# Altium schematic symbol library WCAP-CSGP.SchLib: 1002 symbols (part 20 of 21)
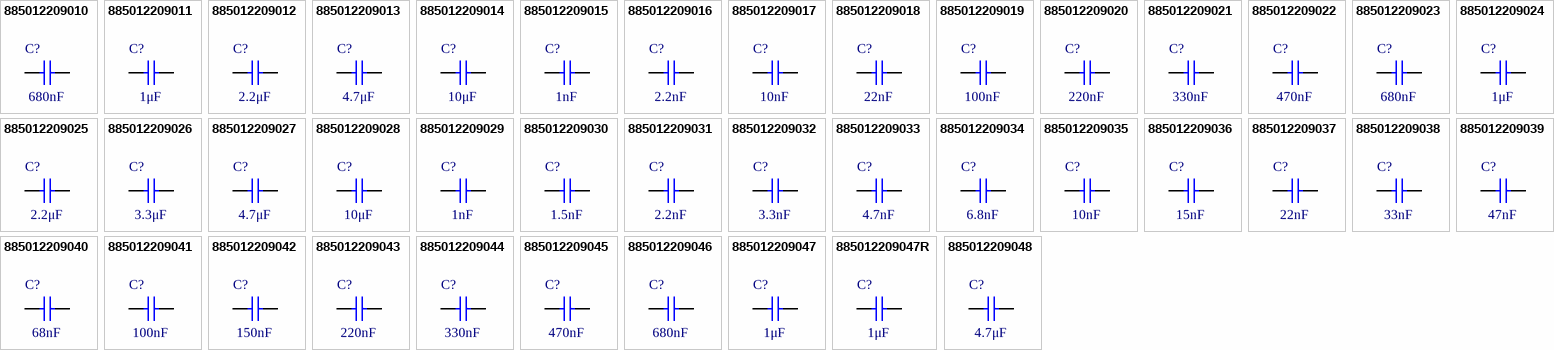
[diagram p44: symbols 885012209010 to 885012209048]

## 885012209031
designator C?, comment 2.2nF
WCAP-CSGP Multilayer Ceramic Chip Capacitor, General Purpose, size 1210, X7R, 2.2nF, 50V; Manufacturer Part Number: 885012209031; Manufacturer: Wurth Elektronik; Case/Size Code: 1210; Capacitance Tolerance: +/-10%; Dissipation Factor: 2.5%; Insulation Resistance: 10GΩ; Technical Reference: X7R1210222K050DFCT10000; Category: Multilayer Ceramic Chip Capacitors; Match Code: WCAP-CSGP; ComponentLink1Description: Website Link; ComponentLink1URL: https://www.we-online.com/redexpert/article/885012209031?ad; ComponentLink2Description: Datasheet Link; ComponentLink2URL: https://www.we-online.com/redexpert/spec/885012209031?ad; Mount: Surface Mount; Min Operating Temperature: -55°C; Max Operating Temperature: 125°C; Packaging: Tape and Reel; Length: 3.2mm; Width: 2.5mm; Height: 0.95mm; Capacitance: 2.2nF; Ceramic Type: X7R; Rated Voltage (DC): 50V
footprint WCAP-CSGP_1210_L3.2W2.5H0.95
simulation model 1210_885012209031_2.2nF
pins: 1, 2

## 885012209032
designator C?, comment 3.3nF
WCAP-CSGP Multilayer Ceramic Chip Capacitor, General Purpose, size 1210, X7R, 3.3nF, 50V; Manufacturer Part Number: 885012209032; Manufacturer: Wurth Elektronik; Case/Size Code: 1210; Capacitance Tolerance: +/-10%; Dissipation Factor: 2.5%; Insulation Resistance: 10GΩ; Technical Reference: X7R1210332K050DFCT10000; Category: Multilayer Ceramic Chip Capacitors; Match Code: WCAP-CSGP; ComponentLink1Description: Website Link; ComponentLink1URL: https://www.we-online.com/redexpert/article/885012209032?ad; ComponentLink2Description: Datasheet Link; ComponentLink2URL: https://www.we-online.com/redexpert/spec/885012209032?ad; Mount: Surface Mount; Min Operating Temperature: -55°C; Max Operating Temperature: 125°C; Packaging: Tape and Reel; Length: 3.2mm; Width: 2.5mm; Height: 0.95mm; Capacitance: 3.3nF; Ceramic Type: X7R; Rated Voltage (DC): 50V
footprint WCAP-CSGP_1210_L3.2W2.5H0.95
simulation model 1210_885012209032_3.3nF
pins: 1, 2

## 885012209033
designator C?, comment 4.7nF
WCAP-CSGP Multilayer Ceramic Chip Capacitor, General Purpose, size 1210, X7R, 4.7nF, 50V; Manufacturer Part Number: 885012209033; Manufacturer: Wurth Elektronik; Case/Size Code: 1210; Capacitance Tolerance: +/-10%; Dissipation Factor: 2.5%; Insulation Resistance: 10GΩ; Technical Reference: X7R1210472K050DFCT10000; Category: Multilayer Ceramic Chip Capacitors; Match Code: WCAP-CSGP; ComponentLink1Description: Website Link; ComponentLink1URL: https://www.we-online.com/redexpert/article/885012209033?ad; ComponentLink2Description: Datasheet Link; ComponentLink2URL: https://www.we-online.com/redexpert/spec/885012209033?ad; Mount: Surface Mount; Min Operating Temperature: -55°C; Max Operating Temperature: 125°C; Packaging: Tape and Reel; Length: 3.2mm; Width: 2.5mm; Height: 0.95mm; Capacitance: 4.7nF; Ceramic Type: X7R; Rated Voltage (DC): 50V
footprint WCAP-CSGP_1210_L3.2W2.5H0.95
simulation model 1210_885012209033_4.7nF
pins: 1, 2

## 885012209034
designator C?, comment 6.8nF
WCAP-CSGP Multilayer Ceramic Chip Capacitor, General Purpose, size 1210, X7R, 6.8nF, 50V; Manufacturer Part Number: 885012209034; Manufacturer: Wurth Elektronik; Case/Size Code: 1210; Capacitance Tolerance: +/-10%; Dissipation Factor: 2.5%; Insulation Resistance: 10GΩ; Technical Reference: X7R1210682K050DFCT10000; Category: Multilayer Ceramic Chip Capacitors; Match Code: WCAP-CSGP; ComponentLink1Description: Website Link; ComponentLink1URL: https://www.we-online.com/redexpert/article/885012209034?ad; ComponentLink2Description: Datasheet Link; ComponentLink2URL: https://www.we-online.com/redexpert/spec/885012209034?ad; Mount: Surface Mount; Min Operating Temperature: -55°C; Max Operating Temperature: 125°C; Packaging: Tape and Reel; Length: 3.2mm; Width: 2.5mm; Height: 0.95mm; Capacitance: 6.8nF; Ceramic Type: X7R; Rated Voltage (DC): 50V
footprint WCAP-CSGP_1210_L3.2W2.5H0.95
simulation model 1210_885012209034_6.8nF
pins: 1, 2

## 885012209035
designator C?, comment 10nF
WCAP-CSGP Multilayer Ceramic Chip Capacitor, General Purpose, size 1210, X7R, 10nF, 50V; Manufacturer Part Number: 885012209035; Manufacturer: Wurth Elektronik; Case/Size Code: 1210; Capacitance Tolerance: +/-10%; Dissipation Factor: 2.5%; Insulation Resistance: 10GΩ; Technical Reference: X7R1210103K050DFCT10000; Category: Multilayer Ceramic Chip Capacitors; Match Code: WCAP-CSGP; ComponentLink1Description: Website Link; ComponentLink1URL: https://www.we-online.com/redexpert/article/885012209035?ad; ComponentLink2Description: Datasheet Link; ComponentLink2URL: https://www.we-online.com/redexpert/spec/885012209035?ad; Mount: Surface Mount; Min Operating Temperature: -55°C; Max Operating Temperature: 125°C; Packaging: Tape and Reel; Length: 3.2mm; Width: 2.5mm; Height: 0.95mm; Capacitance: 10nF; Ceramic Type: X7R; Rated Voltage (DC): 50V
footprint WCAP-CSGP_1210_L3.2W2.5H0.95
simulation model 1210_885012209035_10nF
pins: 1, 2

## 885012209036
designator C?, comment 15nF
WCAP-CSGP Multilayer Ceramic Chip Capacitor, General Purpose, size 1210, X7R, 15nF, 50V; Manufacturer Part Number: 885012209036; Manufacturer: Wurth Elektronik; Case/Size Code: 1210; Capacitance Tolerance: +/-10%; Dissipation Factor: 2.5%; Insulation Resistance: 10GΩ; Technical Reference: X7R1210153K050DFCT10000; Category: Multilayer Ceramic Chip Capacitors; Match Code: WCAP-CSGP; ComponentLink1Description: Website Link; ComponentLink1URL: https://www.we-online.com/redexpert/article/885012209036?ad; ComponentLink2Description: Datasheet Link; ComponentLink2URL: https://www.we-online.com/redexpert/spec/885012209036?ad; Mount: Surface Mount; Min Operating Temperature: -55°C; Max Operating Temperature: 125°C; Packaging: Tape and Reel; Length: 3.2mm; Width: 2.5mm; Height: 0.95mm; Capacitance: 15nF; Ceramic Type: X7R; Rated Voltage (DC): 50V
footprint WCAP-CSGP_1210_L3.2W2.5H0.95
simulation model 1210_885012209036_15nF
pins: 1, 2

## 885012209037
designator C?, comment 22nF
WCAP-CSGP Multilayer Ceramic Chip Capacitor, General Purpose, size 1210, X7R, 22nF, 50V; Manufacturer Part Number: 885012209037; Manufacturer: Wurth Elektronik; Case/Size Code: 1210; Capacitance Tolerance: +/-10%; Dissipation Factor: 2.5%; Insulation Resistance: 10GΩ; Technical Reference: X7R1210223K050DFCT10000; Category: Multilayer Ceramic Chip Capacitors; Match Code: WCAP-CSGP; ComponentLink1Description: Website Link; ComponentLink1URL: https://www.we-online.com/redexpert/article/885012209037?ad; ComponentLink2Description: Datasheet Link; ComponentLink2URL: https://www.we-online.com/redexpert/spec/885012209037?ad; Mount: Surface Mount; Min Operating Temperature: -55°C; Max Operating Temperature: 125°C; Packaging: Tape and Reel; Length: 3.2mm; Width: 2.5mm; Height: 0.95mm; Capacitance: 22nF; Ceramic Type: X7R; Rated Voltage (DC): 50V
footprint WCAP-CSGP_1210_L3.2W2.5H0.95
simulation model 1210_885012209037_22nF
pins: 1, 2

## 885012209038
designator C?, comment 33nF
WCAP-CSGP Multilayer Ceramic Chip Capacitor, General Purpose, size 1210, X7R, 33nF, 50V; Manufacturer Part Number: 885012209038; Manufacturer: Wurth Elektronik; Case/Size Code: 1210; Capacitance Tolerance: +/-10%; Dissipation Factor: 2.5%; Insulation Resistance: 10GΩ; Technical Reference: X7R1210333K050DFCT10000; Category: Multilayer Ceramic Chip Capacitors; Match Code: WCAP-CSGP; ComponentLink1Description: Website Link; ComponentLink1URL: https://www.we-online.com/redexpert/article/885012209038?ad; ComponentLink2Description: Datasheet Link; ComponentLink2URL: https://www.we-online.com/redexpert/spec/885012209038?ad; Mount: Surface Mount; Min Operating Temperature: -55°C; Max Operating Temperature: 125°C; Packaging: Tape and Reel; Length: 3.2mm; Width: 2.5mm; Height: 0.95mm; Capacitance: 33nF; Ceramic Type: X7R; Rated Voltage (DC): 50V
footprint WCAP-CSGP_1210_L3.2W2.5H0.95
simulation model 1210_885012209038_33nF
pins: 1, 2

## 885012209039
designator C?, comment 47nF
WCAP-CSGP Multilayer Ceramic Chip Capacitor, General Purpose, size 1210, X7R, 47nF, 50V; Manufacturer Part Number: 885012209039; Manufacturer: Wurth Elektronik; Case/Size Code: 1210; Capacitance Tolerance: +/-10%; Dissipation Factor: 2.5%; Insulation Resistance: 10GΩ; Technical Reference: X7R1210473K050DFCT10000; Category: Multilayer Ceramic Chip Capacitors; Match Code: WCAP-CSGP; ComponentLink1Description: Website Link; ComponentLink1URL: https://www.we-online.com/redexpert/article/885012209039?ad; ComponentLink2Description: Datasheet Link; ComponentLink2URL: https://www.we-online.com/redexpert/spec/885012209039?ad; Mount: Surface Mount; Min Operating Temperature: -55°C; Max Operating Temperature: 125°C; Packaging: Tape and Reel; Length: 3.2mm; Width: 2.5mm; Height: 0.95mm; Capacitance: 47nF; Ceramic Type: X7R; Rated Voltage (DC): 50V
footprint WCAP-CSGP_1210_L3.2W2.5H0.95
simulation model 1210_885012209039_47nF
pins: 1, 2

## 885012209040
designator C?, comment 68nF
WCAP-CSGP Multilayer Ceramic Chip Capacitor, General Purpose, size 1210, X7R, 68nF, 50V; Manufacturer Part Number: 885012209040; Manufacturer: Wurth Elektronik; Case/Size Code: 1210; Capacitance Tolerance: +/-10%; Dissipation Factor: 2.5%; Insulation Resistance: 7.4GΩ; Technical Reference: X7R1210683K050DFCT10000; Category: Multilayer Ceramic Chip Capacitors; Match Code: WCAP-CSGP; ComponentLink1Description: Website Link; ComponentLink1URL: https://www.we-online.com/redexpert/article/885012209040?ad; ComponentLink2Description: Datasheet Link; ComponentLink2URL: https://www.we-online.com/redexpert/spec/885012209040?ad; Mount: Surface Mount; Min Operating Temperature: -55°C; Max Operating Temperature: 125°C; Packaging: Tape and Reel; Length: 3.2mm; Width: 2.5mm; Height: 0.95mm; Capacitance: 68nF; Ceramic Type: X7R; Rated Voltage (DC): 50V
footprint WCAP-CSGP_1210_L3.2W2.5H0.95
simulation model 1210_885012209040_68nF
pins: 1, 2

## 885012209041
designator C?, comment 100nF
WCAP-CSGP Multilayer Ceramic Chip Capacitor, General Purpose, size 1210, X7R, 100nF, 50V; Manufacturer Part Number: 885012209041; Manufacturer: Wurth Elektronik; Case/Size Code: 1210; Capacitance Tolerance: +/-10%; Dissipation Factor: 2.5%; Insulation Resistance: 5GΩ; Technical Reference: X7R1210104K050DFCT10000; Category: Multilayer Ceramic Chip Capacitors; Match Code: WCAP-CSGP; ComponentLink1Description: Website Link; ComponentLink1URL: https://www.we-online.com/redexpert/article/885012209041?ad; ComponentLink2Description: Datasheet Link; ComponentLink2URL: https://www.we-online.com/redexpert/spec/885012209041?ad; Mount: Surface Mount; Min Operating Temperature: -55°C; Max Operating Temperature: 125°C; Packaging: Tape and Reel; Length: 3.2mm; Width: 2.5mm; Height: 0.95mm; Capacitance: 100nF; Ceramic Type: X7R; Rated Voltage (DC): 50V
footprint WCAP-CSGP_1210_L3.2W2.5H0.95
simulation model 1210_885012209041_100nF
pins: 1, 2

## 885012209042
designator C?, comment 150nF
WCAP-CSGP Multilayer Ceramic Chip Capacitor, General Purpose, size 1210, X7R, 150nF, 50V; Manufacturer Part Number: 885012209042; Manufacturer: Wurth Elektronik; Case/Size Code: 1210; Capacitance Tolerance: +/-10%; Dissipation Factor: 2.5%; Insulation Resistance: 3.3GΩ; Technical Reference: X7R1210154K050DFCT10000; Category: Multilayer Ceramic Chip Capacitors; Match Code: WCAP-CSGP; ComponentLink1Description: Website Link; ComponentLink1URL: https://www.we-online.com/redexpert/article/885012209042?ad; ComponentLink2Description: Datasheet Link; ComponentLink2URL: https://www.we-online.com/redexpert/spec/885012209042?ad; Mount: Surface Mount; Min Operating Temperature: -55°C; Max Operating Temperature: 125°C; Packaging: Tape and Reel; Length: 3.2mm; Width: 2.5mm; Height: 0.95mm; Capacitance: 150nF; Ceramic Type: X7R; Rated Voltage (DC): 50V
footprint WCAP-CSGP_1210_L3.2W2.5H0.95
simulation model 1210_885012209042_150nF
pins: 1, 2

## 885012209043
designator C?, comment 220nF
WCAP-CSGP Multilayer Ceramic Chip Capacitor, General Purpose, size 1210, X7R, 220nF, 50V; Manufacturer Part Number: 885012209043; Manufacturer: Wurth Elektronik; Case/Size Code: 1210; Capacitance Tolerance: +/-10%; Dissipation Factor: 2.5%; Insulation Resistance: 2.3GΩ; Technical Reference: X7R1210224K050DFCT10000; Category: Multilayer Ceramic Chip Capacitors; Match Code: WCAP-CSGP; ComponentLink1Description: Website Link; ComponentLink1URL: https://www.we-online.com/redexpert/article/885012209043?ad; ComponentLink2Description: Datasheet Link; ComponentLink2URL: https://www.we-online.com/redexpert/spec/885012209043?ad; Mount: Surface Mount; Min Operating Temperature: -55°C; Max Operating Temperature: 125°C; Packaging: Tape and Reel; Length: 3.2mm; Width: 2.5mm; Height: 0.95mm; Capacitance: 220nF; Ceramic Type: X7R; Rated Voltage (DC): 50V
footprint WCAP-CSGP_1210_L3.2W2.5H0.95
simulation model 1210_885012209043_220nF
pins: 1, 2

## 885012209044
designator C?, comment 330nF
WCAP-CSGP Multilayer Ceramic Chip Capacitor, General Purpose, size 1210, X7R, 330nF, 50V; Manufacturer Part Number: 885012209044; Manufacturer: Wurth Elektronik; Case/Size Code: 1210; Capacitance Tolerance: +/-10%; Dissipation Factor: 2.5%; Insulation Resistance: 1.5GΩ; Technical Reference: X7R1210334K050DFCT10000; Category: Multilayer Ceramic Chip Capacitors; Match Code: WCAP-CSGP; ComponentLink1Description: Website Link; ComponentLink1URL: https://www.we-online.com/redexpert/article/885012209044?ad; ComponentLink2Description: Datasheet Link; ComponentLink2URL: https://www.we-online.com/redexpert/spec/885012209044?ad; Mount: Surface Mount; Min Operating Temperature: -55°C; Max Operating Temperature: 125°C; Packaging: Tape and Reel; Length: 3.2mm; Width: 2.5mm; Height: 1.25mm; Capacitance: 330nF; Ceramic Type: X7R; Rated Voltage (DC): 50V
footprint WCAP-CSGP_1210_L3.2W2.5H1.25
simulation model 1210_885012209044_330nF
pins: 1, 2

## 885012209045
designator C?, comment 470nF
WCAP-CSGP Multilayer Ceramic Chip Capacitor, General Purpose, size 1210, X7R, 470nF, 50V; Manufacturer Part Number: 885012209045; Manufacturer: Wurth Elektronik; Case/Size Code: 1210; Capacitance Tolerance: +/-10%; Dissipation Factor: 2.5%; Insulation Resistance: 1.1GΩ; Technical Reference: X7R1210474K050DFCT10000; Category: Multilayer Ceramic Chip Capacitors; Match Code: WCAP-CSGP; ComponentLink1Description: Website Link; ComponentLink1URL: https://www.we-online.com/redexpert/article/885012209045?ad; ComponentLink2Description: Datasheet Link; ComponentLink2URL: https://www.we-online.com/redexpert/spec/885012209045?ad; Mount: Surface Mount; Min Operating Temperature: -55°C; Max Operating Temperature: 125°C; Packaging: Tape and Reel; Length: 3.2mm; Width: 2.5mm; Height: 1.25mm; Capacitance: 470nF; Ceramic Type: X7R; Rated Voltage (DC): 50V
footprint WCAP-CSGP_1210_L3.2W2.5H1.25
simulation model 1210_885012209045_470nF
pins: 1, 2

## 885012209046
designator C?, comment 680nF
WCAP-CSGP Multilayer Ceramic Chip Capacitor, General Purpose, size 1210, X7R, 680nF, 50V; Manufacturer Part Number: 885012209046; Manufacturer: Wurth Elektronik; Case/Size Code: 1210; Capacitance Tolerance: +/-10%; Dissipation Factor: 2.5%; Insulation Resistance: 0.7GΩ; Technical Reference: X7R1210684K050DFCT10000; Category: Multilayer Ceramic Chip Capacitors; Match Code: WCAP-CSGP; ComponentLink1Description: Website Link; ComponentLink1URL: https://www.we-online.com/redexpert/article/885012209046?ad; ComponentLink2Description: Datasheet Link; ComponentLink2URL: https://www.we-online.com/redexpert/spec/885012209046?ad; Mount: Surface Mount; Min Operating Temperature: -55°C; Max Operating Temperature: 125°C; Packaging: Tape and Reel; Length: 3.2mm; Width: 2.5mm; Height: 1.25mm; Capacitance: 680nF; Ceramic Type: X7R; Rated Voltage (DC): 50V
footprint WCAP-CSGP_1210_L3.2W2.5H1.25
simulation model 1210_885012209046_680nF
pins: 1, 2

## 885012209047
designator C?, comment 1μF
WCAP-CSGP Multilayer Ceramic Chip Capacitor, General Purpose, size 1210, X7R, 1μF, 50V; Manufacturer Part Number: 885012209047; Manufacturer: Wurth Elektronik; Case/Size Code: 1210; Capacitance Tolerance: +/-10%; Dissipation Factor: 2.5%; Insulation Resistance: 0.5GΩ; Technical Reference: X7R1210105K050DFCT10000; Category: Multilayer Ceramic Chip Capacitors; Match Code: WCAP-CSGP; ComponentLink1Description: Website Link; ComponentLink1URL: https://www.we-online.com/redexpert/article/885012209047?ad; ComponentLink2Description: Datasheet Link; ComponentLink2URL: https://www.we-online.com/redexpert/spec/885012209047?ad; Mount: Surface Mount; Min Operating Temperature: -55°C; Max Operating Temperature: 125°C; Packaging: Tape and Reel; Length: 3.2mm; Width: 2.5mm; Height: 1.25mm; Capacitance: 1μF; Ceramic Type: X7R; Rated Voltage (DC): 50V
footprint WCAP-CSGP_1210_L3.2W2.5H1.25
simulation model 1210_885012209047_1uF
pins: 1, 2

## 885012209047R
designator C?, comment 1μF
WCAP-CSGP Multilayer Ceramic Chip Capacitor, General Purpose, size 1210, X7R, 1μF, 50V; Manufacturer Part Number: 885012209047R; Manufacturer: Wurth Elektronik; Case/Size Code: 1210; Capacitance Tolerance: +/-10%; Dissipation Factor: 2.5%; Insulation Resistance: 0.5GΩ; Technical Reference: X7R1210105K050DFCT20000; Category: Multilayer Ceramic Chip Capacitors; Match Code: WCAP-CSGP; ComponentLink1Description: Website Link; ComponentLink1URL: https://www.we-online.com/redexpert/article/885012209047R?ad; ComponentLink2Description: Datasheet Link; ComponentLink2URL: https://www.we-online.com/redexpert/spec/885012209047R?ad; Mount: Surface Mount; Min Operating Temperature: -55°C; Max Operating Temperature: 125°C; Packaging: Tape and Reel; Length: 3.2mm; Width: 2.5mm; Height: 1.25mm; Capacitance: 1μF; Ceramic Type: X7R; Rated Voltage (DC): 50V
footprint WCAP-CSGP_1210_L3.2W2.5H1.25
simulation model 1210_885012209047R_1uF
pins: 1, 2

## 885012209048
designator C?, comment 4.7μF
WCAP-CSGP Multilayer Ceramic Chip Capacitor, General Purpose, size 1210, X7R, 4.7μF, 50V; Manufacturer Part Number: 885012209048; Manufacturer: Wurth Elektronik; Case/Size Code: 1210; Capacitance Tolerance: +/-10%; Dissipation Factor: 5%; Insulation Resistance: 0.02GΩ; Technical Reference: X7R1210475K050DFCT10000; Category: Multilayer Ceramic Chip Capacitors; Match Code: WCAP-CSGP; ComponentLink1Description: Website Link; ComponentLink1URL: https://www.we-online.com/redexpert/article/885012209048?ad; ComponentLink2Description: Datasheet Link; ComponentLink2URL: https://www.we-online.com/redexpert/spec/885012209048?ad; Mount: Surface Mount; Min Operating Temperature: -55°C; Max Operating Temperature: 125°C; Packaging: Tape and Reel; Length: 3.2mm; Width: 2.5mm; Height: 2.5mm; Capacitance: 4.7μF; Ceramic Type: X7R; Rated Voltage (DC): 50V
footprint WCAP-CSGP_1210_L3.2W2.5H2.5
simulation model 1210_885012209048_4.7uF
pins: 1, 2

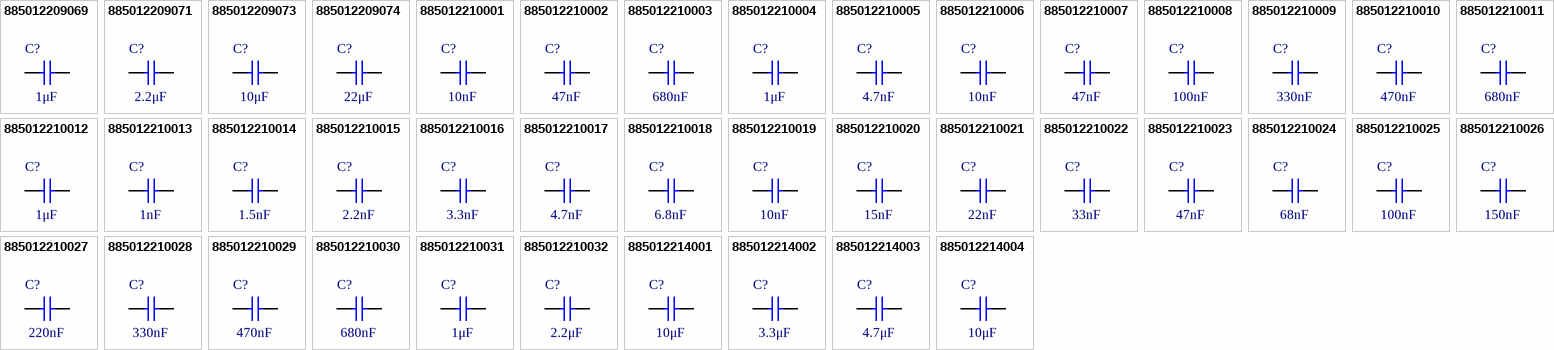
[diagram p24: symbols 885012209069 to 885012214004]

## 885012209069
designator C?, comment 1μF
WCAP-CSGP Multilayer Ceramic Chip Capacitor, General Purpose, size 1210, X7R, 1μF, 100V; Manufacturer Part Number: 885012209069; Manufacturer: Wurth Elektronik; Case/Size Code: 1210; Capacitance Tolerance: +/-10%; Dissipation Factor: 2.5%; Insulation Resistance: 0.1GΩ; Technical Reference: X7R1210105K100DFCT10000; Category: Multilayer Ceramic Chip Capacitors; Match Code: WCAP-CSGP; ComponentLink1Description: Website Link; ComponentLink1URL: https://www.we-online.com/redexpert/article/885012209069?ad; ComponentLink2Description: Datasheet Link; ComponentLink2URL: https://www.we-online.com/redexpert/spec/885012209069?ad; Mount: Surface Mount; Min Operating Temperature: -55°C; Max Operating Temperature: 125°C; Packaging: Tape and Reel; Length: 3.2mm; Width: 2.5mm; Height: 2mm; Capacitance: 1μF; Ceramic Type: X7R; Rated Voltage (DC): 100V
footprint WCAP-CSGP_1210_L3.2W2.5H2
simulation model 1210_885012209069_1uF
pins: 1, 2

## 885012209071
designator C?, comment 2.2μF
WCAP-CSGP Multilayer Ceramic Chip Capacitor, General Purpose, size 1210, X7R, 2.2μF, 100V; Manufacturer Part Number: 885012209071; Manufacturer: Wurth Elektronik; Case/Size Code: 1210; Capacitance Tolerance: +/-10%; Dissipation Factor: 5%; Insulation Resistance: 0.05GΩ; Technical Reference: X7R1210225K100DFCT10000; Category: Multilayer Ceramic Chip Capacitors; Match Code: WCAP-CSGP; ComponentLink1Description: Website Link; ComponentLink1URL: https://www.we-online.com/redexpert/article/885012209071?ad; ComponentLink2Description: Datasheet Link; ComponentLink2URL: https://www.we-online.com/redexpert/spec/885012209071?ad; Mount: Surface Mount; Min Operating Temperature: -55°C; Max Operating Temperature: 125°C; Packaging: Tape and Reel; Length: 3.2mm; Width: 2.5mm; Height: 2.5mm; Capacitance: 2.2μF; Ceramic Type: X7R; Rated Voltage (DC): 100V
footprint WCAP-CSGP_1210_L3.2W2.5H2.5
simulation model 1210_885012209071_2.2uF
pins: 1, 2

## 885012209073
designator C?, comment 10μF
WCAP-CSGP Multilayer Ceramic Chip Capacitor, General Purpose, size 1210, X7R, 10μF, 50V; Manufacturer Part Number: 885012209073; Manufacturer: Wurth Elektronik; Case/Size Code: 1210; Capacitance Tolerance: +/-10%; Dissipation Factor: 10%; Insulation Resistance: 0.01GΩ; Technical Reference: X7R1210106K050DFCT10000; Category: Multilayer Ceramic Chip Capacitors; Match Code: WCAP-CSGP; ComponentLink1Description: Website Link; ComponentLink1URL: https://www.we-online.com/redexpert/article/885012209073?ad; ComponentLink2Description: Datasheet Link; ComponentLink2URL: https://www.we-online.com/redexpert/spec/885012209073?ad; Mount: Surface Mount; Min Operating Temperature: -55°C; Max Operating Temperature: 125°C; Packaging: Tape and Reel; Length: 3.2mm; Width: 2.5mm; Height: 2.5mm; Capacitance: 10μF; Ceramic Type: X7R; Rated Voltage (DC): 50V
footprint WCAP-CSGP_1210_L3.2W2.5H2.5
simulation model 1210_885012209073_10uF
pins: 1, 2

## 885012209074
designator C?, comment 22μF
WCAP-CSGP Multilayer Ceramic Chip Capacitor, General Purpose, size 1210, X7R, 22μF, 25V; Manufacturer Part Number: 885012209074; Manufacturer: Wurth Elektronik; Case/Size Code: 1210; Capacitance Tolerance: +/10%; Dissipation Factor: 10%; Insulation Resistance: 0.005GΩ; Technical Reference: X7R1210226K025DFCT10000; Category: Multilayer Ceramic Chip Capacitors; Match Code: WCAP-CSGP; ComponentLink1Description: Website Link; ComponentLink1URL: https://www.we-online.com/redexpert/article/885012209074?ad; ComponentLink2Description: Datasheet Link; ComponentLink2URL: https://www.we-online.com/redexpert/spec/885012209074?ad; Mount: Surface Mount; Min Operating Temperature: -55°C; Max Operating Temperature: 125°C; Packaging: Tape and Reel; Length: 3.2mm; Width: 2.5mm; Height: 2.5mm; Capacitance: 22μF; Ceramic Type: X7R; Rated Voltage (DC): 25V
footprint WCAP-CSGP_1210_L3.2W2.5H2.5
simulation model 1210_885012209074_22uF
pins: 1, 2

## 885012210001
designator C?, comment 10nF
WCAP-CSGP Multilayer Ceramic Chip Capacitor, General Purpose, size 1812, X7R, 10nF, 16V; Manufacturer Part Number: 885012210001; Manufacturer: Wurth Elektronik; Case/Size Code: 1812; Capacitance Tolerance: +/-10%; Dissipation Factor: 3.5%; Insulation Resistance: 10GΩ; Technical Reference: X7R1812103K016DFCT10000; Category: Multilayer Ceramic Chip Capacitors; Match Code: WCAP-CSGP; ComponentLink1Description: Website Link; ComponentLink1URL: https://www.we-online.com/redexpert/article/885012210001?ad; ComponentLink2Description: Datasheet Link; ComponentLink2URL: https://www.we-online.com/redexpert/spec/885012210001?ad; Mount: Surface Mount; Min Operating Temperature: -55°C; Max Operating Temperature: 125°C; Packaging: Tape and Reel; Length: 4.5mm; Width: 3.2mm; Height: 1.25mm; Capacitance: 10nF; Ceramic Type: X7R; Rated Voltage (DC): 16V
footprint WCAP-CSGP_1812_L4.5W3.2H1.25
simulation model 1812_885012210001_10nF
pins: 1, 2

## 885012210002
designator C?, comment 47nF
WCAP-CSGP Multilayer Ceramic Chip Capacitor, General Purpose, size 1812, X7R, 47nF, 16V; Manufacturer Part Number: 885012210002; Manufacturer: Wurth Elektronik; Case/Size Code: 1812; Capacitance Tolerance: +/-10%; Dissipation Factor: 3.5%; Insulation Resistance: 10GΩ; Technical Reference: X7R1812473K016DFCT10000; Category: Multilayer Ceramic Chip Capacitors; Match Code: WCAP-CSGP; ComponentLink1Description: Website Link; ComponentLink1URL: https://www.we-online.com/redexpert/article/885012210002?ad; ComponentLink2Description: Datasheet Link; ComponentLink2URL: https://www.we-online.com/redexpert/spec/885012210002?ad; Mount: Surface Mount; Min Operating Temperature: -55°C; Max Operating Temperature: 125°C; Packaging: Tape and Reel; Length: 4.5mm; Width: 3.2mm; Height: 1.25mm; Capacitance: 47nF; Ceramic Type: X7R; Rated Voltage (DC): 16V
footprint WCAP-CSGP_1812_L4.5W3.2H1.25
simulation model 1812_885012210002_47nF
pins: 1, 2

## 885012210003
designator C?, comment 680nF
WCAP-CSGP Multilayer Ceramic Chip Capacitor, General Purpose, size 1812, X7R, 680nF, 16V; Manufacturer Part Number: 885012210003; Manufacturer: Wurth Elektronik; Case/Size Code: 1812; Capacitance Tolerance: +/-10%; Dissipation Factor: 3.5%; Insulation Resistance: 0.7GΩ; Technical Reference: X7R1812684K016DFCT10000; Category: Multilayer Ceramic Chip Capacitors; Match Code: WCAP-CSGP; ComponentLink1Description: Website Link; ComponentLink1URL: https://www.we-online.com/redexpert/article/885012210003?ad; ComponentLink2Description: Datasheet Link; ComponentLink2URL: https://www.we-online.com/redexpert/spec/885012210003?ad; Mount: Surface Mount; Min Operating Temperature: -55°C; Max Operating Temperature: 125°C; Packaging: Tape and Reel; Length: 4.5mm; Width: 3.2mm; Height: 1.25mm; Capacitance: 680nF; Ceramic Type: X7R; Rated Voltage (DC): 16V
footprint WCAP-CSGP_1812_L4.5W3.2H1.25
simulation model 1812_885012210003_680nF
pins: 1, 2

## 885012210004
designator C?, comment 1μF
WCAP-CSGP Multilayer Ceramic Chip Capacitor, General Purpose, size 1812, X7R, 1μF, 16V; Manufacturer Part Number: 885012210004; Manufacturer: Wurth Elektronik; Case/Size Code: 1812; Capacitance Tolerance: +/-10%; Dissipation Factor: 3.5%; Insulation Resistance: 0.5GΩ; Technical Reference: X7R1812105K016DFCT10000; Category: Multilayer Ceramic Chip Capacitors; Match Code: WCAP-CSGP; ComponentLink1Description: Website Link; ComponentLink1URL: https://www.we-online.com/redexpert/article/885012210004?ad; ComponentLink2Description: Datasheet Link; ComponentLink2URL: https://www.we-online.com/redexpert/spec/885012210004?ad; Mount: Surface Mount; Min Operating Temperature: -55°C; Max Operating Temperature: 125°C; Packaging: Tape and Reel; Length: 4.5mm; Width: 3.2mm; Height: 1.25mm; Capacitance: 1μF; Ceramic Type: X7R; Rated Voltage (DC): 16V
footprint WCAP-CSGP_1812_L4.5W3.2H1.25
simulation model 1812_885012210004_1uF
pins: 1, 2

## 885012210005
designator C?, comment 4.7nF
WCAP-CSGP Multilayer Ceramic Chip Capacitor, General Purpose, size 1812, X7R, 4.7nF, 25V; Manufacturer Part Number: 885012210005; Manufacturer: Wurth Elektronik; Case/Size Code: 1812; Capacitance Tolerance: +/-10%; Dissipation Factor: 3.5%; Insulation Resistance: 10GΩ; Technical Reference: X7R1812472K025DFCT10000; Category: Multilayer Ceramic Chip Capacitors; Match Code: WCAP-CSGP; ComponentLink1Description: Website Link; ComponentLink1URL: https://www.we-online.com/redexpert/article/885012210005?ad; ComponentLink2Description: Datasheet Link; ComponentLink2URL: https://www.we-online.com/redexpert/spec/885012210005?ad; Mount: Surface Mount; Min Operating Temperature: -55°C; Max Operating Temperature: 125°C; Packaging: Tape and Reel; Length: 4.5mm; Width: 3.2mm; Height: 1.25mm; Capacitance: 4.7nF; Ceramic Type: X7R; Rated Voltage (DC): 25V
footprint WCAP-CSGP_1812_L4.5W3.2H1.25
simulation model 1812_885012210005_4.7nF
pins: 1, 2

## 885012210006
designator C?, comment 10nF
WCAP-CSGP Multilayer Ceramic Chip Capacitor, General Purpose, size 1812, X7R, 10nF, 25V; Manufacturer Part Number: 885012210006; Manufacturer: Wurth Elektronik; Case/Size Code: 1812; Capacitance Tolerance: +/-10%; Dissipation Factor: 3.5%; Insulation Resistance: 10GΩ; Technical Reference: X7R1812103K025DFCT10000; Category: Multilayer Ceramic Chip Capacitors; Match Code: WCAP-CSGP; ComponentLink1Description: Website Link; ComponentLink1URL: https://www.we-online.com/redexpert/article/885012210006?ad; ComponentLink2Description: Datasheet Link; ComponentLink2URL: https://www.we-online.com/redexpert/spec/885012210006?ad; Mount: Surface Mount; Min Operating Temperature: -55°C; Max Operating Temperature: 125°C; Packaging: Tape and Reel; Length: 4.5mm; Width: 3.2mm; Height: 1.25mm; Capacitance: 10nF; Ceramic Type: X7R; Rated Voltage (DC): 25V
footprint WCAP-CSGP_1812_L4.5W3.2H1.25
simulation model 1812_885012210006_10nF
pins: 1, 2

## 885012210007
designator C?, comment 47nF
WCAP-CSGP Multilayer Ceramic Chip Capacitor, General Purpose, size 1812, X7R, 47nF, 25V; Manufacturer Part Number: 885012210007; Manufacturer: Wurth Elektronik; Case/Size Code: 1812; Capacitance Tolerance: +/-10%; Dissipation Factor: 3.5%; Insulation Resistance: 10GΩ; Technical Reference: X7R1812473K025DFCT10000; Category: Multilayer Ceramic Chip Capacitors; Match Code: WCAP-CSGP; ComponentLink1Description: Website Link; ComponentLink1URL: https://www.we-online.com/redexpert/article/885012210007?ad; ComponentLink2Description: Datasheet Link; ComponentLink2URL: https://www.we-online.com/redexpert/spec/885012210007?ad; Mount: Surface Mount; Min Operating Temperature: -55°C; Max Operating Temperature: 125°C; Packaging: Tape and Reel; Length: 4.5mm; Width: 3.2mm; Height: 1.25mm; Capacitance: 47nF; Ceramic Type: X7R; Rated Voltage (DC): 25V
footprint WCAP-CSGP_1812_L4.5W3.2H1.25
simulation model 1812_885012210007_47nF
pins: 1, 2

## 885012210008
designator C?, comment 100nF
WCAP-CSGP Multilayer Ceramic Chip Capacitor, General Purpose, size 1812, X7R, 100nF, 25V; Manufacturer Part Number: 885012210008; Manufacturer: Wurth Elektronik; Case/Size Code: 1812; Capacitance Tolerance: +/-10%; Dissipation Factor: 3.5%; Insulation Resistance: 5GΩ; Technical Reference: X7R1812104K025DFCT10000; Category: Multilayer Ceramic Chip Capacitors; Match Code: WCAP-CSGP; ComponentLink1Description: Website Link; ComponentLink1URL: https://www.we-online.com/redexpert/article/885012210008?ad; ComponentLink2Description: Datasheet Link; ComponentLink2URL: https://www.we-online.com/redexpert/spec/885012210008?ad; Mount: Surface Mount; Min Operating Temperature: -55°C; Max Operating Temperature: 125°C; Packaging: Tape and Reel; Length: 4.5mm; Width: 3.2mm; Height: 1.25mm; Capacitance: 100nF; Ceramic Type: X7R; Rated Voltage (DC): 25V
footprint WCAP-CSGP_1812_L4.5W3.2H1.25
simulation model 1812_885012210008_100nF
pins: 1, 2

## 885012210009
designator C?, comment 330nF
WCAP-CSGP Multilayer Ceramic Chip Capacitor, General Purpose, size 1812, X7R, 330nF, 25V; Manufacturer Part Number: 885012210009; Manufacturer: Wurth Elektronik; Case/Size Code: 1812; Capacitance Tolerance: +/-10%; Dissipation Factor: 3.5%; Insulation Resistance: 1.5GΩ; Technical Reference: X7R1812334K025DFCT10000; Category: Multilayer Ceramic Chip Capacitors; Match Code: WCAP-CSGP; ComponentLink1Description: Website Link; ComponentLink1URL: https://www.we-online.com/redexpert/article/885012210009?ad; ComponentLink2Description: Datasheet Link; ComponentLink2URL: https://www.we-online.com/redexpert/spec/885012210009?ad; Mount: Surface Mount; Min Operating Temperature: -55°C; Max Operating Temperature: 125°C; Packaging: Tape and Reel; Length: 4.5mm; Width: 3.2mm; Height: 1.25mm; Capacitance: 330nF; Ceramic Type: X7R; Rated Voltage (DC): 25V
footprint WCAP-CSGP_1812_L4.5W3.2H1.25
simulation model 1812_885012210009_330nF
pins: 1, 2

## 885012210010
designator C?, comment 470nF
WCAP-CSGP Multilayer Ceramic Chip Capacitor, General Purpose, size 1812, X7R, 470nF, 25V; Manufacturer Part Number: 885012210010; Manufacturer: Wurth Elektronik; Case/Size Code: 1812; Capacitance Tolerance: +/-10%; Dissipation Factor: 3.5%; Insulation Resistance: 1.1GΩ; Technical Reference: X7R1812474K025DFCT10000; Category: Multilayer Ceramic Chip Capacitors; Match Code: WCAP-CSGP; ComponentLink1Description: Website Link; ComponentLink1URL: https://www.we-online.com/redexpert/article/885012210010?ad; ComponentLink2Description: Datasheet Link; ComponentLink2URL: https://www.we-online.com/redexpert/spec/885012210010?ad; Mount: Surface Mount; Min Operating Temperature: -55°C; Max Operating Temperature: 125°C; Packaging: Tape and Reel; Length: 4.5mm; Width: 3.2mm; Height: 1.25mm; Capacitance: 470nF; Ceramic Type: X7R; Rated Voltage (DC): 25V
footprint WCAP-CSGP_1812_L4.5W3.2H1.25
simulation model 1812_885012210010_470nF
pins: 1, 2

## 885012210011
designator C?, comment 680nF
WCAP-CSGP Multilayer Ceramic Chip Capacitor, General Purpose, size 1812, X7R, 680nF, 25V; Manufacturer Part Number: 885012210011; Manufacturer: Wurth Elektronik; Case/Size Code: 1812; Capacitance Tolerance: +/-10%; Dissipation Factor: 3.5%; Insulation Resistance: 0.7GΩ; Technical Reference: X7R1812684K025DFCT10000; Category: Multilayer Ceramic Chip Capacitors; Match Code: WCAP-CSGP; ComponentLink1Description: Website Link; ComponentLink1URL: https://www.we-online.com/redexpert/article/885012210011?ad; ComponentLink2Description: Datasheet Link; ComponentLink2URL: https://www.we-online.com/redexpert/spec/885012210011?ad; Mount: Surface Mount; Min Operating Temperature: -55°C; Max Operating Temperature: 125°C; Packaging: Tape and Reel; Length: 4.5mm; Width: 3.2mm; Height: 1.25mm; Capacitance: 680nF; Ceramic Type: X7R; Rated Voltage (DC): 25V
footprint WCAP-CSGP_1812_L4.5W3.2H1.25
simulation model 1812_885012210011_680nF
pins: 1, 2

## 885012210012
designator C?, comment 1μF
WCAP-CSGP Multilayer Ceramic Chip Capacitor, General Purpose, size 1812, X7R, 1μF, 25V; Manufacturer Part Number: 885012210012; Manufacturer: Wurth Elektronik; Case/Size Code: 1812; Capacitance Tolerance: +/-10%; Dissipation Factor: 3.5%; Insulation Resistance: 0.5GΩ; Technical Reference: X7R1812105K025DFCT10000; Category: Multilayer Ceramic Chip Capacitors; Match Code: WCAP-CSGP; ComponentLink1Description: Website Link; ComponentLink1URL: https://www.we-online.com/redexpert/article/885012210012?ad; ComponentLink2Description: Datasheet Link; ComponentLink2URL: https://www.we-online.com/redexpert/spec/885012210012?ad; Mount: Surface Mount; Min Operating Temperature: -55°C; Max Operating Temperature: 125°C; Packaging: Tape and Reel; Length: 4.5mm; Width: 3.2mm; Height: 1.25mm; Capacitance: 1μF; Ceramic Type: X7R; Rated Voltage (DC): 25V
footprint WCAP-CSGP_1812_L4.5W3.2H1.25
simulation model 1812_885012210012_1uF
pins: 1, 2

## 885012210013
designator C?, comment 1nF
WCAP-CSGP Multilayer Ceramic Chip Capacitor, General Purpose, size 1812, X7R, 1nF, 50V; Manufacturer Part Number: 885012210013; Manufacturer: Wurth Elektronik; Case/Size Code: 1812; Capacitance Tolerance: +/-10%; Dissipation Factor: 2.5%; Insulation Resistance: 10GΩ; Technical Reference: X7R1812102K050DFCT10000; Category: Multilayer Ceramic Chip Capacitors; Match Code: WCAP-CSGP; ComponentLink1Description: Website Link; ComponentLink1URL: https://www.we-online.com/redexpert/article/885012210013?ad; ComponentLink2Description: Datasheet Link; ComponentLink2URL: https://www.we-online.com/redexpert/spec/885012210013?ad; Mount: Surface Mount; Min Operating Temperature: -55°C; Max Operating Temperature: 125°C; Packaging: Tape and Reel; Length: 4.5mm; Width: 3.2mm; Height: 1.25mm; Capacitance: 1nF; Ceramic Type: X7R; Rated Voltage (DC): 50V
footprint WCAP-CSGP_1812_L4.5W3.2H1.25
simulation model 1812_885012210013_1nF
pins: 1, 2

## 885012210014
designator C?, comment 1.5nF
WCAP-CSGP Multilayer Ceramic Chip Capacitor, General Purpose, size 1812, X7R, 1.5nF, 50V; Manufacturer Part Number: 885012210014; Manufacturer: Wurth Elektronik; Case/Size Code: 1812; Capacitance Tolerance: +/-10%; Dissipation Factor: 2.5%; Insulation Resistance: 10GΩ; Technical Reference: X7R1812152K050DFCT10000; Category: Multilayer Ceramic Chip Capacitors; Match Code: WCAP-CSGP; ComponentLink1Description: Website Link; ComponentLink1URL: https://www.we-online.com/redexpert/article/885012210014?ad; ComponentLink2Description: Datasheet Link; ComponentLink2URL: https://www.we-online.com/redexpert/spec/885012210014?ad; Mount: Surface Mount; Min Operating Temperature: -55°C; Max Operating Temperature: 125°C; Packaging: Tape and Reel; Length: 4.5mm; Width: 3.2mm; Height: 1.25mm; Capacitance: 1.5nF; Ceramic Type: X7R; Rated Voltage (DC): 50V
footprint WCAP-CSGP_1812_L4.5W3.2H1.25
simulation model 1812_885012210014_1.5nF
pins: 1, 2

## 885012210015
designator C?, comment 2.2nF
WCAP-CSGP Multilayer Ceramic Chip Capacitor, General Purpose, size 1812, X7R, 2.2nF, 50V; Manufacturer Part Number: 885012210015; Manufacturer: Wurth Elektronik; Case/Size Code: 1812; Capacitance Tolerance: +/-10%; Dissipation Factor: 2.5%; Insulation Resistance: 10GΩ; Technical Reference: X7R1812222K050DFCT10000; Category: Multilayer Ceramic Chip Capacitors; Match Code: WCAP-CSGP; ComponentLink1Description: Website Link; ComponentLink1URL: https://www.we-online.com/redexpert/article/885012210015?ad; ComponentLink2Description: Datasheet Link; ComponentLink2URL: https://www.we-online.com/redexpert/spec/885012210015?ad; Mount: Surface Mount; Min Operating Temperature: -55°C; Max Operating Temperature: 125°C; Packaging: Tape and Reel; Length: 4.5mm; Width: 3.2mm; Height: 1.25mm; Capacitance: 2.2nF; Ceramic Type: X7R; Rated Voltage (DC): 50V
footprint WCAP-CSGP_1812_L4.5W3.2H1.25
simulation model 1812_885012210015_2.2nF
pins: 1, 2

## 885012210016
designator C?, comment 3.3nF
WCAP-CSGP Multilayer Ceramic Chip Capacitor, General Purpose, size 1812, X7R, 3.3nF, 50V; Manufacturer Part Number: 885012210016; Manufacturer: Wurth Elektronik; Case/Size Code: 1812; Capacitance Tolerance: +/-10%; Dissipation Factor: 2.5%; Insulation Resistance: 10GΩ; Technical Reference: X7R1812332K050DFCT10000; Category: Multilayer Ceramic Chip Capacitors; Match Code: WCAP-CSGP; ComponentLink1Description: Website Link; ComponentLink1URL: https://www.we-online.com/redexpert/article/885012210016?ad; ComponentLink2Description: Datasheet Link; ComponentLink2URL: https://www.we-online.com/redexpert/spec/885012210016?ad; Mount: Surface Mount; Min Operating Temperature: -55°C; Max Operating Temperature: 125°C; Packaging: Tape and Reel; Length: 4.5mm; Width: 3.2mm; Height: 1.25mm; Capacitance: 3.3nF; Ceramic Type: X7R; Rated Voltage (DC): 50V
footprint WCAP-CSGP_1812_L4.5W3.2H1.25
simulation model 1812_885012210016_3.3nF
pins: 1, 2

## 885012210017
designator C?, comment 4.7nF
WCAP-CSGP Multilayer Ceramic Chip Capacitor, General Purpose, size 1812, X7R, 4.7nF, 50V; Manufacturer Part Number: 885012210017; Manufacturer: Wurth Elektronik; Case/Size Code: 1812; Capacitance Tolerance: +/-10%; Dissipation Factor: 2.5%; Insulation Resistance: 10GΩ; Technical Reference: X7R1812472K050DFCT10000; Category: Multilayer Ceramic Chip Capacitors; Match Code: WCAP-CSGP; ComponentLink1Description: Website Link; ComponentLink1URL: https://www.we-online.com/redexpert/article/885012210017?ad; ComponentLink2Description: Datasheet Link; ComponentLink2URL: https://www.we-online.com/redexpert/spec/885012210017?ad; Mount: Surface Mount; Min Operating Temperature: -55°C; Max Operating Temperature: 125°C; Packaging: Tape and Reel; Length: 4.5mm; Width: 3.2mm; Height: 1.25mm; Capacitance: 4.7nF; Ceramic Type: X7R; Rated Voltage (DC): 50V
footprint WCAP-CSGP_1812_L4.5W3.2H1.25
simulation model 1812_885012210017_4.7nF
pins: 1, 2

## 885012210018
designator C?, comment 6.8nF
WCAP-CSGP Multilayer Ceramic Chip Capacitor, General Purpose, size 1812, X7R, 6.8nF, 50V; Manufacturer Part Number: 885012210018; Manufacturer: Wurth Elektronik; Case/Size Code: 1812; Capacitance Tolerance: +/-10%; Dissipation Factor: 2.5%; Insulation Resistance: 10GΩ; Technical Reference: X7R1812682K050DFCT10000; Category: Multilayer Ceramic Chip Capacitors; Match Code: WCAP-CSGP; ComponentLink1Description: Website Link; ComponentLink1URL: https://www.we-online.com/redexpert/article/885012210018?ad; ComponentLink2Description: Datasheet Link; ComponentLink2URL: https://www.we-online.com/redexpert/spec/885012210018?ad; Mount: Surface Mount; Min Operating Temperature: -55°C; Max Operating Temperature: 125°C; Packaging: Tape and Reel; Length: 4.5mm; Width: 3.2mm; Height: 1.25mm; Capacitance: 6.8nF; Ceramic Type: X7R; Rated Voltage (DC): 50V
footprint WCAP-CSGP_1812_L4.5W3.2H1.25
simulation model 1812_885012210018_6.8nF
pins: 1, 2

## 885012210019
designator C?, comment 10nF
WCAP-CSGP Multilayer Ceramic Chip Capacitor, General Purpose, size 1812, X7R, 10nF, 50V; Manufacturer Part Number: 885012210019; Manufacturer: Wurth Elektronik; Case/Size Code: 1812; Capacitance Tolerance: +/-10%; Dissipation Factor: 2.5%; Insulation Resistance: 10GΩ; Technical Reference: X7R1812103K050DFCT10000; Category: Multilayer Ceramic Chip Capacitors; Match Code: WCAP-CSGP; ComponentLink1Description: Website Link; ComponentLink1URL: https://www.we-online.com/redexpert/article/885012210019?ad; ComponentLink2Description: Datasheet Link; ComponentLink2URL: https://www.we-online.com/redexpert/spec/885012210019?ad; Mount: Surface Mount; Min Operating Temperature: -55°C; Max Operating Temperature: 125°C; Packaging: Tape and Reel; Length: 4.5mm; Width: 3.2mm; Height: 1.25mm; Capacitance: 10nF; Ceramic Type: X7R; Rated Voltage (DC): 50V
footprint WCAP-CSGP_1812_L4.5W3.2H1.25
simulation model 1812_885012210019_10nF
pins: 1, 2

## 885012210020
designator C?, comment 15nF
WCAP-CSGP Multilayer Ceramic Chip Capacitor, General Purpose, size 1812, X7R, 15nF, 50V; Manufacturer Part Number: 885012210020; Manufacturer: Wurth Elektronik; Case/Size Code: 1812; Capacitance Tolerance: +/-10%; Dissipation Factor: 2.5%; Insulation Resistance: 10GΩ; Technical Reference: X7R1812153K050DFCT10000; Category: Multilayer Ceramic Chip Capacitors; Match Code: WCAP-CSGP; ComponentLink1Description: Website Link; ComponentLink1URL: https://www.we-online.com/redexpert/article/885012210020?ad; ComponentLink2Description: Datasheet Link; ComponentLink2URL: https://www.we-online.com/redexpert/spec/885012210020?ad; Mount: Surface Mount; Min Operating Temperature: -55°C; Max Operating Temperature: 125°C; Packaging: Tape and Reel; Length: 4.5mm; Width: 3.2mm; Height: 1.25mm; Capacitance: 15nF; Ceramic Type: X7R; Rated Voltage (DC): 50V
footprint WCAP-CSGP_1812_L4.5W3.2H1.25
simulation model 1812_885012210020_15nF
pins: 1, 2

## 885012210021
designator C?, comment 22nF
WCAP-CSGP Multilayer Ceramic Chip Capacitor, General Purpose, size 1812, X7R, 22nF, 50V; Manufacturer Part Number: 885012210021; Manufacturer: Wurth Elektronik; Case/Size Code: 1812; Capacitance Tolerance: +/-10%; Dissipation Factor: 2.5%; Insulation Resistance: 10GΩ; Technical Reference: X7R1812223K050DFCT10000; Category: Multilayer Ceramic Chip Capacitors; Match Code: WCAP-CSGP; ComponentLink1Description: Website Link; ComponentLink1URL: https://www.we-online.com/redexpert/article/885012210021?ad; ComponentLink2Description: Datasheet Link; ComponentLink2URL: https://www.we-online.com/redexpert/spec/885012210021?ad; Mount: Surface Mount; Min Operating Temperature: -55°C; Max Operating Temperature: 125°C; Packaging: Tape and Reel; Length: 4.5mm; Width: 3.2mm; Height: 1.25mm; Capacitance: 22nF; Ceramic Type: X7R; Rated Voltage (DC): 50V
footprint WCAP-CSGP_1812_L4.5W3.2H1.25
simulation model 1812_885012210021_22nF
pins: 1, 2

## 885012210022
designator C?, comment 33nF
WCAP-CSGP Multilayer Ceramic Chip Capacitor, General Purpose, size 1812, X7R, 33nF, 50V; Manufacturer Part Number: 885012210022; Manufacturer: Wurth Elektronik; Case/Size Code: 1812; Capacitance Tolerance: +/-10%; Dissipation Factor: 2.5%; Insulation Resistance: 10GΩ; Technical Reference: X7R1812333K050DFCT10000; Category: Multilayer Ceramic Chip Capacitors; Match Code: WCAP-CSGP; ComponentLink1Description: Website Link; ComponentLink1URL: https://www.we-online.com/redexpert/article/885012210022?ad; ComponentLink2Description: Datasheet Link; ComponentLink2URL: https://www.we-online.com/redexpert/spec/885012210022?ad; Mount: Surface Mount; Min Operating Temperature: -55°C; Max Operating Temperature: 125°C; Packaging: Tape and Reel; Length: 4.5mm; Width: 3.2mm; Height: 1.25mm; Capacitance: 33nF; Ceramic Type: X7R; Rated Voltage (DC): 50V
footprint WCAP-CSGP_1812_L4.5W3.2H1.25
simulation model 1812_885012210022_33nF
pins: 1, 2

## 885012210023
designator C?, comment 47nF
WCAP-CSGP Multilayer Ceramic Chip Capacitor, General Purpose, size 1812, X7R, 47nF, 50V; Manufacturer Part Number: 885012210023; Manufacturer: Wurth Elektronik; Case/Size Code: 1812; Capacitance Tolerance: +/-10%; Dissipation Factor: 2.5%; Insulation Resistance: 10GΩ; Technical Reference: X7R1812473K050DFCT10000; Category: Multilayer Ceramic Chip Capacitors; Match Code: WCAP-CSGP; ComponentLink1Description: Website Link; ComponentLink1URL: https://www.we-online.com/redexpert/article/885012210023?ad; ComponentLink2Description: Datasheet Link; ComponentLink2URL: https://www.we-online.com/redexpert/spec/885012210023?ad; Mount: Surface Mount; Min Operating Temperature: -55°C; Max Operating Temperature: 125°C; Packaging: Tape and Reel; Length: 4.5mm; Width: 3.2mm; Height: 1.25mm; Capacitance: 47nF; Ceramic Type: X7R; Rated Voltage (DC): 50V
footprint WCAP-CSGP_1812_L4.5W3.2H1.25
simulation model 1812_885012210023_47nF
pins: 1, 2

## 885012210024
designator C?, comment 68nF
WCAP-CSGP Multilayer Ceramic Chip Capacitor, General Purpose, size 1812, X7R, 68nF, 50V; Manufacturer Part Number: 885012210024; Manufacturer: Wurth Elektronik; Case/Size Code: 1812; Capacitance Tolerance: +/-10%; Dissipation Factor: 2.5%; Insulation Resistance: 7.4GΩ; Technical Reference: X7R1812683K050DFCT10000; Category: Multilayer Ceramic Chip Capacitors; Match Code: WCAP-CSGP; ComponentLink1Description: Website Link; ComponentLink1URL: https://www.we-online.com/redexpert/article/885012210024?ad; ComponentLink2Description: Datasheet Link; ComponentLink2URL: https://www.we-online.com/redexpert/spec/885012210024?ad; Mount: Surface Mount; Min Operating Temperature: -55°C; Max Operating Temperature: 125°C; Packaging: Tape and Reel; Length: 4.5mm; Width: 3.2mm; Height: 1.25mm; Capacitance: 68nF; Ceramic Type: X7R; Rated Voltage (DC): 50V
footprint WCAP-CSGP_1812_L4.5W3.2H1.25
simulation model 1812_885012210024_68nF
pins: 1, 2

## 885012210025
designator C?, comment 100nF
WCAP-CSGP Multilayer Ceramic Chip Capacitor, General Purpose, size 1812, X7R, 100nF, 50V; Manufacturer Part Number: 885012210025; Manufacturer: Wurth Elektronik; Case/Size Code: 1812; Capacitance Tolerance: +/-10%; Dissipation Factor: 2.5%; Insulation Resistance: 5GΩ; Technical Reference: X7R1812104K050DFCT10000; Category: Multilayer Ceramic Chip Capacitors; Match Code: WCAP-CSGP; ComponentLink1Description: Website Link; ComponentLink1URL: https://www.we-online.com/redexpert/article/885012210025?ad; ComponentLink2Description: Datasheet Link; ComponentLink2URL: https://www.we-online.com/redexpert/spec/885012210025?ad; Mount: Surface Mount; Min Operating Temperature: -55°C; Max Operating Temperature: 125°C; Packaging: Tape and Reel; Length: 4.5mm; Width: 3.2mm; Height: 1.25mm; Capacitance: 100nF; Ceramic Type: X7R; Rated Voltage (DC): 50V
footprint WCAP-CSGP_1812_L4.5W3.2H1.25
simulation model 1812_885012210025_100nF
pins: 1, 2

## 885012210026
designator C?, comment 150nF
WCAP-CSGP Multilayer Ceramic Chip Capacitor, General Purpose, size 1812, X7R, 150nF, 50V; Manufacturer Part Number: 885012210026; Manufacturer: Wurth Elektronik; Case/Size Code: 1812; Capacitance Tolerance: +/-10%; Dissipation Factor: 2.5%; Insulation Resistance: 3.3GΩ; Technical Reference: X7R1812154K050DFCT10000; Category: Multilayer Ceramic Chip Capacitors; Match Code: WCAP-CSGP; ComponentLink1Description: Website Link; ComponentLink1URL: https://www.we-online.com/redexpert/article/885012210026?ad; ComponentLink2Description: Datasheet Link; ComponentLink2URL: https://www.we-online.com/redexpert/spec/885012210026?ad; Mount: Surface Mount; Min Operating Temperature: -55°C; Max Operating Temperature: 125°C; Packaging: Tape and Reel; Length: 4.5mm; Width: 3.2mm; Height: 1.25mm; Capacitance: 150nF; Ceramic Type: X7R; Rated Voltage (DC): 50V
footprint WCAP-CSGP_1812_L4.5W3.2H1.25
simulation model 1812_885012210026_150nF
pins: 1, 2

## 885012210027
designator C?, comment 220nF
WCAP-CSGP Multilayer Ceramic Chip Capacitor, General Purpose, size 1812, X7R, 220nF, 50V; Manufacturer Part Number: 885012210027; Manufacturer: Wurth Elektronik; Case/Size Code: 1812; Capacitance Tolerance: +/-10%; Dissipation Factor: 2.5%; Insulation Resistance: 2.3GΩ; Technical Reference: X7R1812224K050DFCT10000; Category: Multilayer Ceramic Chip Capacitors; Match Code: WCAP-CSGP; ComponentLink1Description: Website Link; ComponentLink1URL: https://www.we-online.com/redexpert/article/885012210027?ad; ComponentLink2Description: Datasheet Link; ComponentLink2URL: https://www.we-online.com/redexpert/spec/885012210027?ad; Mount: Surface Mount; Min Operating Temperature: -55°C; Max Operating Temperature: 125°C; Packaging: Tape and Reel; Length: 4.5mm; Width: 3.2mm; Height: 1.25mm; Capacitance: 220nF; Ceramic Type: X7R; Rated Voltage (DC): 50V
footprint WCAP-CSGP_1812_L4.5W3.2H1.25
simulation model 1812_885012210027_220nF
pins: 1, 2